# Altium schematic symbol library Resistor_2512.SchLib: 1 symbol
Pins are listed as number, name and electrical type; pins without a type are passive.

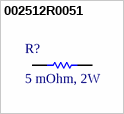
[diagram p0: symbol 002512R0051]

## 002512R0051
designator R?, comment 5 mOhm, 2W
RES, size 2512, 5 mOhm, 2W; Manufacturer: YAGEO; Manufacturer Part Number: PA2512FKF7W0R005E; Tolerance: +/-1%; Value: 5 mOhm; Packaging: Tape and Reel; Supplier 1: Mouser; Supplier 1 Part Number: 603-PA2512FKF7W0R005; Supplier 1 URL: https://www.mouser.com/ProductDetail/YAGEO/PA2512FKF7W0R005E?qs=kUzwwg2uGjVVrHetxt8Trw%3D%3D; Supplier 2: Digi-Key; Supplier 2 Part Number: YAG2145TR-ND; Supplier 2 URL: https://www.digikey.com/en/products/detail/yageo/pa2512fkf7w0r005e/5138664; Supplier 3: thegioiic; Supplier 3 Part Number: N/A; Supplier 3 URL: N/A; ComponentLink1Description: Datasheet; ComponentLink1URL: https://www.mouser.com/datasheet/2/447/PYu_PA0100_2512_51_RoHS_2-2604383.pdf; Mount: SMD/SMT; Operating Temperature Max: + 85 C; Operating Temperature Min: - 40 C; Package / Case: 2512; LCSC Part #: C309526; Rated Power: 2W
footprint RES_2512 (Chip Resistor, 2-Leads, Body 6.35x3.18mm, IPC Medium Density)
simulation model R_Resistor_Default (Model Description)
signal-integrity model Resistor Model
pins: 1, 2